# Altium schematic symbol library LED_RED.SchLib: 1 symbol
Pins are listed as number, name and electrical type; pins without a type are passive.

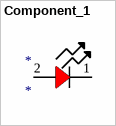
[diagram p0: symbol Component_1]

## Component_1
designator *
footprint LED_LSM0805-2P0X1P25X0P8_VCC
pins: 1 -, 2 +